# EAGLE library part TEENSY3.2 (library kanzi)
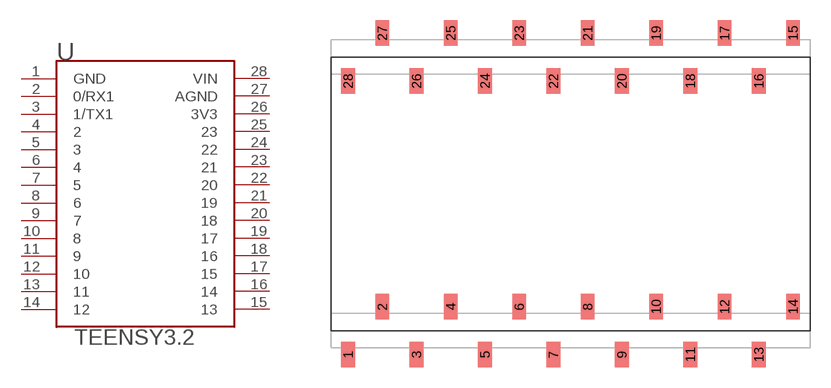
[diagram p2: symbol with the pads of TEENSY3.2; footprint TEENSY3.2]

Designator prefix -

## TEENSY3.2  [TEENSY3.2]
1  GND
2  0/RX1
3  1/TX1
4  2
5  3
6  4
7  5
8  6
9  7
10  8
11  9
12  10
13  11
14  12
15  13
16  14
17  15
18  16
19  17
20  18
21  19
22  20
23  21
24  22
25  23
26  3V3
27  AGND
28  VIN

## Footprint TEENSY3.2 (pad centres in mm)
translated Allegro footprint
smd 1.02 x 1.905: 1 -16.51,-13.208; 2 -13.97,-9.652; 3 -11.43,-13.208; 4 -8.89,-9.652; 5 -6.35,-13.208; 6 -3.81,-9.652; 7 -1.27,-13.208; 8 1.27,-9.652; 9 3.81,-13.208; 10 6.35,-9.652; 11 8.89,-13.208; 12 11.43,-9.652; 13 13.97,-13.208; 14 16.51,-9.652; 15 16.51,10.668; 16 13.97,7.112; 17 11.43,10.668; 18 8.89,7.112; 19 6.35,10.668; 20 3.81,7.112; 21 1.27,10.668; 22 -1.27,7.112; 23 -3.81,10.668; 24 -6.35,7.112; 25 -8.89,10.668; 26 -11.43,7.112; 27 -13.97,10.668; 28 -16.51,7.112